# Altium integrated library TDR.IntLib: 21 symbols
Pins are listed as number, name and electrical type; pins without a type are passive.

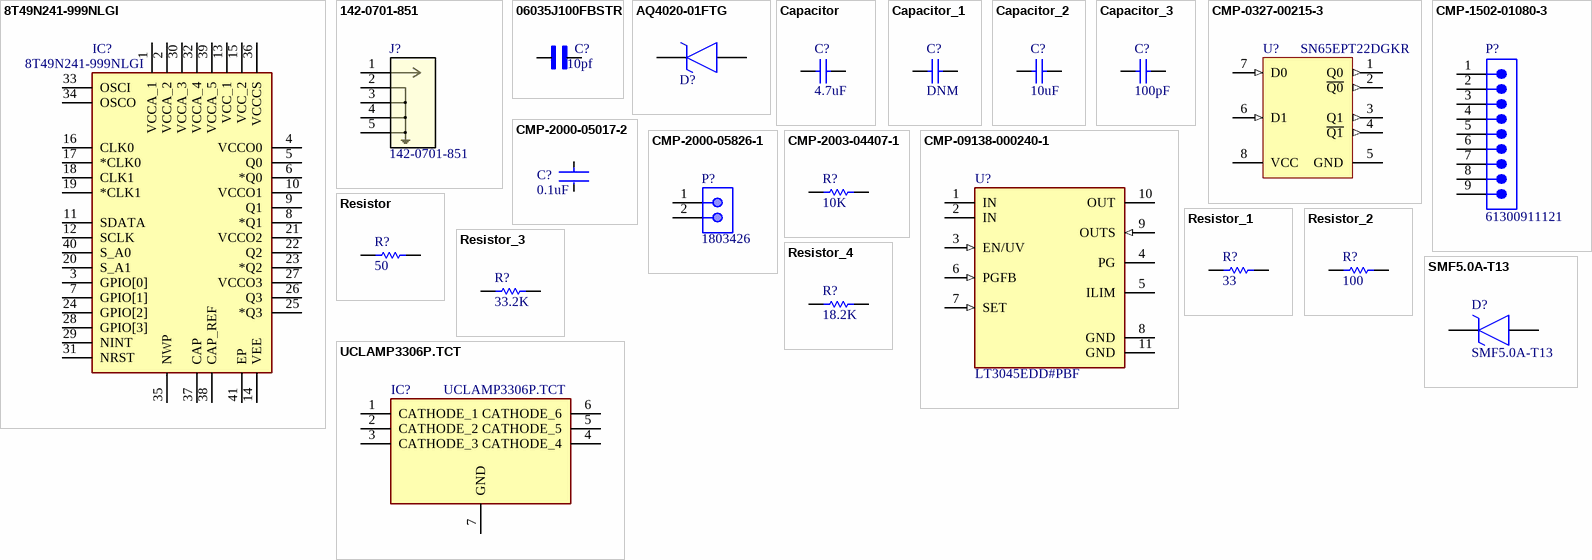
[diagram p0: symbols 8T49N241-999NLGI to UCLAMP3306P.TCT]

## 8T49N241-999NLGI
designator IC?
Integrated Circuit; Manufacturer_Name: Renesas Electronics; Datasheet Link: https://www.idt.com/document/dst/8t49n241-datasheet; Height: 1mm; Manufacturer_Part_Number: 8T49N241-999NLGI; Mouser Part Number: 972-8T49N241-999NLGI; Mouser Price/Stock: https://www.mouser.co.uk/ProductDetail/Renesas-Electronics/8T49N241-999NLGI?qs=ZwKJWZfDtNjnVZ7GQAcPpQ%3D%3D; Supplier 1: DigiKey; Supplier Part Number 1: 800-3385-ND
footprint NLG40P2_MFG (Recommended Land Pattern)
pins: 1 VCCA_1, 2 VCCA_2, 3 GPIO[0], 4 VCCO0, 5 Q0, 6 *Q0, 7 GPIO[1], 8 *Q1, 9 Q1, 10 VCCO1, 11 SDATA, 12 SCLK, 13 VCC_1, 14 VEE, 15 VCC_2, 16 CLK0, 17 *CLK0, 18 CLK1, 19 *CLK1, 20 S_A1, 21 VCCO2, 22 Q2, 23 *Q2, 24 GPIO[2], 25 *Q3, 26 Q3, 27 VCCO3, 28 GPIO[3], 29 NINT, 30 VCCA_3, 31 NRST, 32 VCCA_4, 33 OSCI, 34 OSCO, 35 NWP, 36 VCCCS, 37 CAP, 38 CAP_REF, 39 VCCA_5, 40 S_A0, 41 EP

## 142-0701-851
designator J?
Description; Manufacturer_Name: Cinch Connectivity Solutions; Copyright: Copyright (C) 2025 Ultra Librarian. All rights reserved.; Manufacturer_Part_Number: 142-0701-851; RefDes: RefDes; Type: Type
footprint CONN_142-0701-851_CIN
pins: 1, 2, 3, 4, 5

## 06035J100FBSTR
designator C?, comment 10pf
10 pF Thin Film Capacitor 50 V 0603 (1608 Metric); MF: AVX; MP: 06035J100FBSTR; SnapEDA_Link: https://www.snapeda.com/parts/06035J100FBSTR/AVX/view-part/?ref=snap; Package: 0603-2 AVX; Value: *; Check_prices: https://www.snapeda.com/parts/06035J100FBSTR/AVX/view-part/?ref=eda; ComponentLink1Description: Manufacturer site:; ComponentLink1URL: https://www.snapeda.com/parts/06035J100FBSTR/AVX/view-part/?ref=snap
footprint CAPC1608X90
pins: 1, 2

## AQ4020-01FTG
designator D?  (value not drawn)
TVS Diode (Uni-directional); Manufacturer_Name: LITTELFUSE; Datasheet Link: https://componentsearchengine.com/Datasheets/2/AQ4020-01FTG.pdf; Height: 1.14mm; Manufacturer_Part_Number: AQ4020-01FTG; Mouser Part Number: 576-AQ4020-01FTG; Mouser Price/Stock: https://www.mouser.co.uk/ProductDetail/Littelfuse/AQ4020-01FTG?qs=YCa%2FAAYMW015W3B84qpvIw%3D%3D; Arrow Part Number: AQ4020-01FTG; Arrow Price/Stock: https://www.arrow.com/en/products/aq4020-01ftg/littelfuse?utm_currency=USD&region=nac
footprint SOD2613X114N
pins: 1 K, 2 A

## Capacitor
designator C?  value 4.7uF  (hidden comment: Capacitor)
SimulationGenericComponent: True
simulation model C_Capacitor_Default (CAP)
footprint CAP_C0805X-HAC-DR_KEM-M
pins: 1, 2

## Capacitor_1
designator C?, comment value DNM  (hidden comment: Capacitor)
SimulationGenericComponent: True
simulation model C_Capacitor_Default (CAP)
footprint CAP_C0805X-HAC-DR_KEM-M
pins: 1, 2

## Capacitor_2
designator C?, comment value 10uF  (hidden comment: Capacitor)
SimulationGenericComponent: True
simulation model C_Capacitor_Default (CAP)
footprint CAP_C0805X-HAC-DR_KEM-M
pins: 1, 2

## Capacitor_3
designator C?, comment value 100pF  (hidden comment: Capacitor)
SimulationGenericComponent: True
simulation model C_Capacitor_Default (CAP)
footprint CAP_C0805X-HAC-DR_KEM-M
pins: 1, 2

## CMP-0327-00215-3
designator U?, comment SN65EPT22DGKR
4000 Mbps 3.3 V Dual LVTTL / LVCMOS to Differential LVPECL Buffer, 2 Tx and 2 Rx, -40 to +85 degC, 8-pin VSSOP (DGK), Green (RoHS & no Sb/Br); Manufacturer: Texas Instruments; ICC(Max)(mA): 50; Input Signal: LVTTL, CMOS; No. of Rx: 2; SubFamily: PECL PHY; Signaling Rate(Mbps): 4000; xECL: TRUE; DatasheetVersion: SLLS926A; Output Signal: LVPECL; ComponentLink3Description: URL Link1; PackageVersion: revE, May-2006; ComponentLink1Description: Manufacturer URL; ComponentLink2Description: Datasheet; No. of Tx: 2; ComponentLink1URL: http://www.ti.com/; PackageReference: DGK0008A; Eco-Plan: Green (RoHS & no Sb/Br); Mounting Technology: Surface Mount; PackageDescription: 8-Pin Thin Small Outline Package 3 x 3 mm Body ,0.65 mm Pitch; ComponentLink2URL: http://www.ti.com/general/docs/lit/getliterature.tsp?genericPartNumber=SN65EPT22&fileType=pdf; ComponentLink3URL: SamplesURL:http://www.ti.com/product/sn65ept22#samples; PartNumber: SN65EPT22DGKR
footprint DGK0008A_M (TSOP, 8-Leads, Body 3.1x3.1mm, Pitch 0.65mm, IPC Low Density)
footprint DGK0008A_N (TSOP, 8-Leads, Body 3.1x3.1mm, Pitch 0.65mm, IPC Medium Density)
footprint DGK0008A_L (TSOP, 8-Leads, Body 3.1x3.1mm, Pitch 0.65mm, IPC High Density)
pins: 1 Q0 (out) "LVPECL outputs", 2 ~{Q0} (out) "LVPECL outputs", 3 Q1 (out) "LVPECL outputs", 4 ~{Q1} (out) "LVPECL outputs", 5 GND (power) "Ground", 6 D1 (in) "LVTTL data inputs", 7 D0 (in) "LVTTL data inputs", 8 VCC (power) "Positive supply"

## CMP-1502-01080-3
designator P?, comment 61300911121
NexarPartId: 32855536; Current Rating: 3A; Connector Type: Male Pin; Operating Supply Voltage: 250V; Contact Resistance: 20mΩ; Pitch: 2.54mm; Number of Contacts: 9; Gender: Male; Lead Pitch: 2.54mm; REACH SVHC: Unknown; Number of Rows: 1; Mount: Through Hole; Contact Plating: Gold; Color: Black; Number of Pins: 9; Orientation: Vertical; Contact Material: Copper; Packaging: Bulk; Contact Mating Length: 5.9944mm; RoHS: Compliant; Number of Positions: 9; Termination: Solder
footprint 61300911121 (THT Vertical Pin Header WR-PHD, Pitch 2.54 mm, Single Row, 9 pins)
pins: 1, 2, 3, 4, 5, 6, 7, 8, 9

## CMP-2000-05017-2
designator C?, comment 0.1uF
CL21 Series 0805 100nF 50V ±10% Tolerance X7R Multilayer Ceramic Chip Capacitor; Depth: 1.25mm; Height: 0.85mm; Width: 0.049inch; Tolerance: 10%; Case Code (Metric): 2012; Case Code (Imperial): 0805; Material: Ceramic; Thickness: 0.037inch; Min Operating Temperature: -55°C; Contact Plating: Tin; Length: 2mm; Mount: Surface Mount; Voltage Rating (DC): 50V; Lead Free: Lead Free; Dielectric: X7R; Radiation Hardening: No; Capacitance: 100nF; Voltage Rating: 50V; Case/Package: 0805; Packaging: Tape and Reel; Max Operating Temperature: 125°C; Voltage: 50V
footprint FP-CL21-IPC_C
footprint FP-CL21-IPC_A
footprint FP-CL21-IPC_B
pins: 1, 2

## CMP-2000-05826-1
designator P?, comment 1803426
Male Header, Pitch 3.81 mm, 1 x 2 Position, Height 9.2 mm, Tail Length 3.4 mm; Manufacturer: Phoenix Contact; Manufacturer URL: http://www.phoenixcontact.com/; Datasheet Version: 02/2015; Mounting Technology: ThroughHole; Package Description: Male Header, Pitch 3.81 mm, 1 x 2 Position, Height 9.2 mm; Datasheet URL: https://www.phoenixcontact.com/online/portal/cn/pxc/product_detail_page/!ut/p/b1/3VfHjrNIGHyWeQDG5HAkm5zjxQIM2AQDNvnp1zNa7WFX889l5YPpA6L1qUtVdFX3d4gPEYCiFAaBJHgID_Etma9lMl67W9J8fcf4iRJ1HIRRHAIZDANpTKVtR3IFAyUOwSEE0ZNTbb2iOquuOqg8OKsEReRD0XpT8cAJtHK1h62gd5Lwwj7fSR7gfNZiWNE2tu2Xg71pvaHw3VHbDIccysUbixteZxggMWJnxWgP9KIolKko13HrKNI0OD69xjcsLwZb9oJmcNi4flh1xw9LW6-eWTQ9nREGMg82nQ7i5d6Jdk07dw7fZbrokLagaoyYggEvB4C7H5W4HERjSAam7I1pSvC1iqzSu8itk8CidtE6n3bP2nD0Pp6iRD-LQiLob5pFzwLixwIWO7iH0PcgleukhedgldkYbrFLA5WSM7ufG5_qGPkUc9vEzZQaS901mlWkPYn5tWxhabkCUfW4SsSIbpPuMIJHpQReslhERyEnqVrZBIU1V5Nilrs5X123FVtC3BVOSLHMP1b6PfXsNSgk1T-F50SEmtzqQUXqhsW5rwQ1o0BXB2gELrcQ4gCUoNAFTBX6N2LEmxJz0Hclhr8rsXf1mPOuHoPf1WPwu3oMflePSW-7Fd81PGj4i1jqc2r6kGnO3K4b7QxsE14hAduG8C7FaT2GvZ7I-s0j05SGAI1kaO9y99Mt55acg9cLDNYaWwQcdDTPAtjrfMY1OBkOcVEr9HZ8tGspIQLbIVDtpjctgzHFMG4BAZsGvQthBBH4WA-nFo17BJ08nhvnnSIvtClxxDZLZLDt43EXgXAD-FUl6xp1LReX8w3Sb-3dEFiLergsTPmiPWlKHKTnUE9MvjMWis8MoKAxhXcLRQoyR1OjaJFnuS2q9AQSlWi71_PQS1I7hwNcTAR9vGjIY_k4yIf4mrafS9Z-gp_9mn329-4; Package Reference: 1803426
footprint PHOE-1803426_V (THD, 2-Leads, Body 9.01x7.25mm, Pitch 3.81mm)
pins: 1, 2

## CMP-2003-04407-1
designator R?, comment 10K
Manufacturer: Panasonic; Part Number: ERA8AEB103V
footprint RESC3216X70X50LL20T25 (Chip Resistor, 2-Leads, Body 3.20x1.60mm, IPC High Density)
footprint RESC3216X70X50NL20T25 (Chip Resistor, 2-Leads, Body 3.20x1.60mm, IPC Medium Density)
footprint RESC3216X70X50ML20T25 (Chip Resistor, 2-Leads, Body 3.20x1.60mm, IPC Low Density)
pins: 1, 2
1 alternate drawing of the same symbol

## CMP-09138-000240-1
designator U?, comment LT3045EDD#PBF
IC REG LINEAR 0V 500MA 10DFN; Min Current Limit: 570mA; Number of Regulators: 1; Dropout Voltage: 260mV; Output Voltage: 15V; RoHS Compliant: Yes; Series: -; Output Current: 500mA; Case/Package: DFN; Max Operating Temperature: 125°C; Min Operating Temperature: -40°C
footprint FP-LT3045EDD#PBF-MFG
footprint FP-LT3045EDD#PBF-IPC_C
footprint FP-LT3045EDD#PBF-IPC_B
footprint FP-LT3045EDD#PBF-IPC_A
pins: 1 IN (power), 2 IN (power), 3 EN/UV (in), 4 PG (oc), 5 ILIM, 6 PGFB (in), 7 SET (in), 8 GND (power), 9 OUTS (in), 10 OUT (power), 11 GND (power)

## Resistor
designator R?  value 50  (hidden comment: Resistor)
TC1: 0; SimulationGenericComponent: True; TC2: 0
simulation model R_Resistor_Default (Model Description)
footprint RESC2012X60N
pins: 1, 2

## Resistor_1
designator R?, comment value 33  (hidden comment: Resistor)
TC1: 0; SimulationGenericComponent: True; TC2: 0
simulation model R_Resistor_Default (Model Description)
footprint RESC2012X60N
pins: 1, 2

## Resistor_2
designator R?, comment value 100  (hidden comment: Resistor)
TC1: 0; SimulationGenericComponent: True; TC2: 0
simulation model R_Resistor_Default (Model Description)
footprint RESC2012X60N
pins: 1, 2

## Resistor_3
designator R?, comment value 33.2K  (hidden comment: Resistor)
TC1: 0; SimulationGenericComponent: True; TC2: 0
simulation model R_Resistor_Default (Model Description)
footprint RESC2012X60N
pins: 1, 2

## Resistor_4
designator R?, comment value 18.2K  (hidden comment: Resistor)
TC1: 0; SimulationGenericComponent: True; TC2: 0
simulation model R_Resistor_Default (Model Description)
footprint RESC2012X60N
pins: 1, 2

## SMF5.0A-T13
designator D?
TVS Diode (Uni-directional); Manufacturer_Name: LITTELFUSE; Datasheet Link: https://www.littelfuse.com/~/media/electronics/datasheets/tvs_diodes/littelfuse_tvs_diode_smf_datasheet.pdf.pdf; Height: 1.1mm; Manufacturer_Part_Number: SMF5.0A-T13; Mouser Part Number: 576-SMF5.0A-T13; Mouser Price/Stock: https://www.mouser.co.uk/ProductDetail/Littelfuse/SMF5.0A-T13?qs=aGgfWYEhH7lEohru0mAWAg%3D%3D; Arrow Part Number: SMF5.0A-T13; Arrow Price/Stock: https://www.arrow.com/en/products/smf5.0a-t13/littelfuse?utm_currency=USD&region=nac
footprint SODFL3618X110N
pins: 1 K, 2 A

## UCLAMP3306P.TCT
designator IC?
Integrated Circuit; Manufacturer_Name: SEMTECH; Datasheet Link: https://www.arrow.com/en/products/uclamp3306p.tct/semtech; Height: 0.65mm; Manufacturer_Part_Number: UCLAMP3306P.TCT; Mouser Part Number: 947-UCLAMP3306P.TCT; Mouser Price/Stock: https://www.mouser.co.uk/ProductDetail/Semtech/UCLAMP3306P.TCT?qs=rBWM4%252BvDhIfpXpVk%252BnR0dg%3D%3D; Arrow Part Number: UCLAMP3306P.TCT; Arrow Price/Stock: https://www.arrow.com/en/products/uclamp3306p.tct/semtech?region=nac
footprint SON50P160X160X65-7N
pins: 1 CATHODE_1, 2 CATHODE_2, 3 CATHODE_3, 4 CATHODE_4, 5 CATHODE_5, 6 CATHODE_6, 7 GND